# Altium footprint library sitiboard1.PcbLib: 27 footprints (part 2 of 2)
Each footprint in its own frame and in the unit in brackets; x right, y up, seen from the top. Pads: shape width x height; smd on the part's side, far side on the other; paste and mask are expansions set on the pad; w line width, h text height; cw(c..) or ccw(c..) is an arc to the next point about the centre after c.
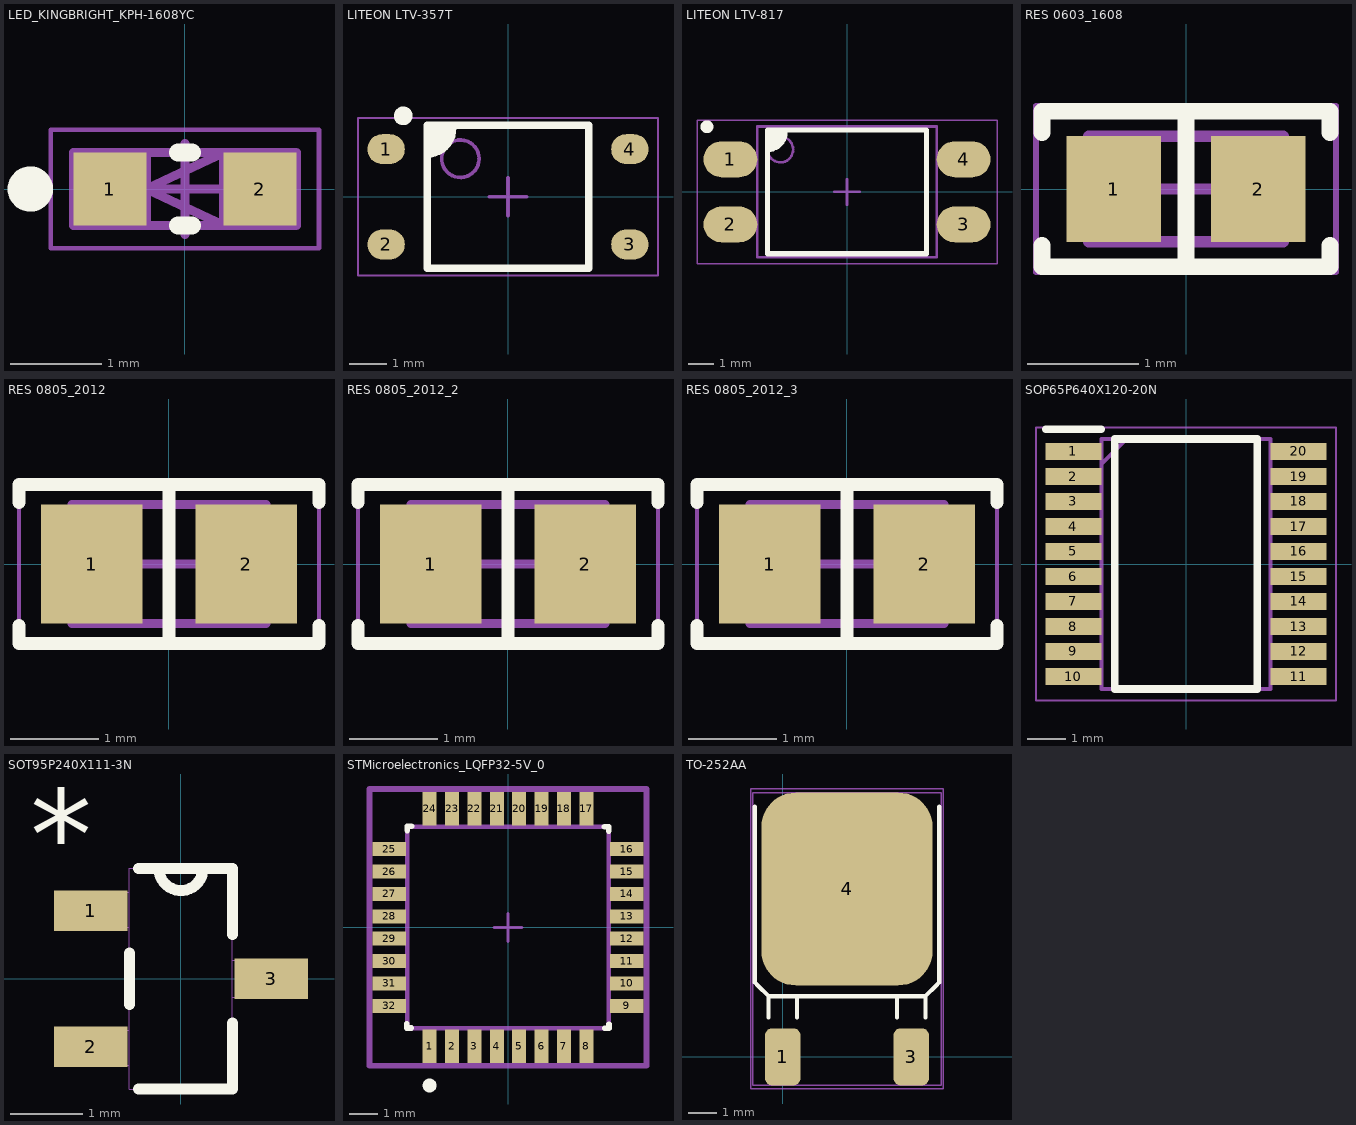
[diagram p1: the footprints below, top view; thin cyan lines are the x and y axes]

## LED_KINGBRIGHT_KPH-1608YC [mm]
pads (2):
  rect 0.8x0.8 smd: 1(-0.825,0) 2(0.825,0)
Top Overlay:
  circle w0.25: c-1.7,0 r0.125
  lines w0.2: -0.075,-0.4 0.075,-0.4 ; -0.075,0.4 0.075,0.4
Mechanical 8:
  lines w0.1: -0.5,0 0,0 ; -0.425,0 0.425,0 ; 0,-0.5 0,0 ; 0,0.5 0,0 ; 0.5,0 0,0 ; -0.425,-0.4 -1.225,-0.4 -1.225,0.4 -0.425,0.4 ; -0.425,-0.4 -0.425,0.4 ; -0.425,-0.4 -0.825,0 -0.425,0.4 ; 1.225,-0.4 0.425,-0.4 0.425,0.4 1.225,0.4 ; 1.225,-0.4 1.225,0.4 ; 1.225,-0.4 0.825,0 1.225,0.4
Mechanical 14:
  lines w0.1: -0.8,-0.4 -0.8,0.4 0.8,0.4 0.8,-0.4 -0.8,-0.4 ; -0.425,0 0.425,0.4 0.425,-0.4 -0.425,0
Mechanical 15:
  lines w0.05: -1.475,-0.65 -1.475,0.65 1.475,0.65 1.475,-0.65 -1.475,-0.65
3D body "LED_KINGBRIGHT_KPH-1608YC_Part2.stp": height 0.65, standoff 0.12, extent -0.6,-0.4 0.6,0.4
3D body "LED_KINGBRIGHT_KPH-1608YC_Part1.stp": height 0.2, standoff 0, extent -0.8,-0.4 0.8,0.4

## LITEON LTV-357T [mm]
pads (4):
  oval 1x0.8 smd: 1(-3.25,1.27) 2(-3.25,-1.27) 3(3.25,-1.27) 4(3.25,1.27)
Top Overlay:
  circle w0.25: c-2.794,2.159 r0.125
  region: -2.159,1.905 -1.472,1.905 -1.472,1.524 -1.853,1.143 -2.159,1.143
  lines w0.2: -2.159,1.143 ccw(c-2.159,1.83) -1.472,1.83 ; -2.159,-1.905 2.159,-1.905 2.159,1.905 -2.159,1.905 -2.159,-1.905
Mechanical 13:
  circle w0.1: c-1.27,1.016 r0.5
  lines w0.1: -2.159,-1.905 2.159,-1.905 2.159,1.905 -2.159,1.905 -2.159,-1.905
Mechanical 15:
  lines w0.05: -4,-2.1 4,-2.1 4,2.1 -4,2.1 -4,-2.1
  lines w0.1: -0.5,0 0.5,0 ; 0,-0.5 0,0.5
3D body "LTV-357T.STEP": height 2.1, standoff 0, extent -3.514,-1.925 3.514,1.925

## LITEON LTV-817 [mm]
pads (4):
  oval 2.1x1.4 smd: 1(-4.55,1.27) 2(-4.55,-1.27) 3(4.55,-1.27) 4(4.55,1.27)
Top Overlay:
  circle w0.25: c-5.461,2.54 r0.125
  region: -3.1,2.413 -2.413,2.413 -2.413,2.032 -2.794,1.651 -3.1,1.651
  lines w0.2: -3.1,1.651 ccw(c-3.1,2.338) -2.413,2.338 ; -3.1,-2.413 3.1,-2.413 3.1,2.413 -3.1,2.413 -3.1,-2.413
Mechanical 13:
  circle w0.1: c-2.6,1.65 r0.5
  lines w0.1: -3.5,-2.55 3.5,-2.55 3.5,2.55 -3.5,2.55 -3.5,-2.55
Mechanical 15:
  lines w0.05: -5.85,-2.8 5.85,-2.8 5.85,2.8 -5.85,2.8 -5.85,-2.8
  lines w0.1: -0.5,0 0.5,0 ; 0,-0.5 0,0.5
3D body "LTV-817S.STEP": height 3.85, standoff 0, extent -5.098,-2.3 5.098,2.3

## RES 0603_1608 [mm]
pads (2):
  rect 0.85x0.95 smd: 1(-0.65,0) 2(0.65,0)
Top Overlay:
  lines w0.15: -1.295,-0.7 -1.295,-0.508 ; -1.295,0.508 -1.295,0.7 ; -1.27,-0.7 1.27,-0.7 ; -1.27,0.7 1.27,0.7 ; 0,-0.7 0,0.7 ; 1.295,-0.7 1.295,-0.508 ; 1.295,0.508 1.295,0.7
Mechanical 13:
  lines w0.1: -0.875,-0.475 -0.875,0.475 0.875,0.475 0.875,-0.475 -0.875,-0.475
Mechanical 15:
  lines w0.05: -1.35,-0.75 -1.35,0.75 1.35,0.75 1.35,-0.75 -1.35,-0.75
  lines w0.1: -0.475,0 0.475,0 ; 0,-0.475 0,0.475
3D body "0603 resistor.STEP": height 0.45, standoff 0, extent -0.8,-0.4 0.8,0.4

## RES 0805_2012 [mm] "Chip Resistor, 2-Leads, Body 2.00x1.25mm, IPC Medium Density"
height 0.7
pads (2):
  rect 1.15x1.35 smd: 1(-0.875,0) 2(0.875,0)
Top Overlay:
  lines w0.15: -1.7,-0.7 -1.7,-0.9 1.7,-0.9 1.7,-0.7 ; -1.7,0.7 -1.7,0.9 1.7,0.9 1.7,0.7 ; 0,-0.9 0,0.9
Mechanical 13:
  lines w0.1: -1.1,-0.675 1.1,-0.675 1.1,0.675 -1.1,0.675 -1.1,-0.675
Mechanical 15:
  lines w0.05: -1.7,-0.95 1.7,-0.95 1.7,0.95 -1.7,0.95 -1.7,-0.95
  lines w0.1: -0.5,0 0.5,0 ; 0,-0.5 0,0.5
3D body "0805 resistor.STEP": height 0.6, standoff 0, extent -1,-0.625 1,0.625

## RES 0805_2012_2 [mm]
pads (2):
  rect 1.15x1.35 smd: 1(-0.875,0) 2(0.875,0)
Top Overlay:
  lines w0.15: -1.7,-0.7 -1.7,-0.9 1.7,-0.9 1.7,-0.7 ; -1.7,0.7 -1.7,0.9 1.7,0.9 1.7,0.7 ; 0,-0.9 0,0.9
Mechanical 13:
  lines w0.1: -1.1,-0.675 -1.1,0.675 1.1,0.675 1.1,-0.675 -1.1,-0.675
Mechanical 15:
  lines w0.05: -1.7,-0.95 -1.7,0.95 1.7,0.95 1.7,-0.95 -1.7,-0.95
  lines w0.1: -0.5,0 0.5,0 ; 0,-0.5 0,0.5
3D body "0805 resistor.STEP": height 0.6, standoff 0, extent -1,-0.625 1,0.625

## RES 0805_2012_3 [mm]
pads (2):
  rect 1.15x1.35 smd: 1(-0.875,0) 2(0.875,0)
Top Overlay:
  lines w0.15: -1.7,-0.7 -1.7,-0.9 1.7,-0.9 1.7,-0.7 ; -1.7,0.7 -1.7,0.9 1.7,0.9 1.7,0.7 ; 0,-0.9 0,0.9
Mechanical 13:
  lines w0.1: -1.1,-0.675 -1.1,0.675 1.1,0.675 1.1,-0.675 -1.1,-0.675
Mechanical 15:
  lines w0.05: -1.7,-0.95 -1.7,0.95 1.7,0.95 1.7,-0.95 -1.7,-0.95
  lines w0.1: -0.5,0 0.5,0 ; 0,-0.5 0,0.5
3D body "0805 resistor.STEP": height 0.6, standoff 0, extent -1,-0.625 1,0.625

## SOP65P640X120-20N [mm]
pads (20):
  rect 1.45x0.45 smd: 1(-2.925,2.925) 2(-2.925,2.275) 3(-2.925,1.625) 4(-2.925,0.975) 5(-2.925,0.325) 6(-2.925,-0.325) 7(-2.925,-0.975) 8(-2.925,-1.625) 9(-2.925,-2.275) 10(-2.925,-2.925) 11(2.925,-2.925) 12(2.925,-2.275) 13(2.925,-1.625) 14(2.925,-0.975) 15(2.925,-0.325) 16(2.925,0.325) 17(2.925,0.975) 18(2.925,1.625) 19(2.925,2.275) 20(2.925,2.925)
Top Overlay:
  lines w0.2: -3.65,3.5 -2.2,3.5 ; -1.85,-3.25 -1.85,3.25 1.85,3.25 1.85,-3.25 -1.85,-3.25
Mechanical 13:
  lines w0.1: -2.2,2.6 -1.55,3.25 ; -2.2,-3.25 -2.2,3.25 2.2,3.25 2.2,-3.25 -2.2,-3.25
Mechanical 15:
  lines w0.05: -3.9,-3.55 -3.9,3.55 3.9,3.55 3.9,-3.55 -3.9,-3.55
3D body "MC74VHC245DTG.stp": height 1.2, standoff 0, extent -3.2,-3.25 3.2,3.25

## SOT95P240X111-3N [mil]
pads (3):
  rect 40x22 smd: 1(-49,37) 2(-49,-37) 3(49,0)
Top Overlay:
  lines w6: -28,-14 -28,14 ; -23,-60 28,-60 28,-24 ; -23,60 -12,60 ; 28,24 28,60 12,60 ; -12,60 ccw(c0,60) 12,60 ; -12,60 12,60
  text "*" at -82,54 h49.21
Mechanical 13:
  lines w0: -28,-47 -52,-47 -52,-28 -28,-28 ; -28,-47 -28,-28 ; -28,-47 -28,-60 28,-60 28,-10 ; -28,-28 -28,28 ; -28,28 -52,28 -52,47 -28,47 ; -28,28 -28,47 ; -28,47 -28,60 -12,60 ; -12,60 ccw(c0,60) 12,60 ; -12,60 12,60 ; 12,60 28,60 28,10 ; 28,-10 52,-10 52,10 28,10 ; 28,-10 28,10
  text "*" at -82,54 h49.21
3D body "step_temp.STEP": height 43.7, standoff 0, extent -57.09,-47.24 57.09,47.24

## STMicroelectronics_LQFP32-5V_0 [mm]
pads (32):
  rect 0.5x1.2 smd paste+0 mask+0: 1(-2.8,-4.25) 2(-2,-4.25) 3(-1.2,-4.25) 4(-0.4,-4.25) 5(0.4,-4.25) 6(1.2,-4.25) 7(2,-4.25) 8(2.8,-4.25) 17(2.8,4.25) 18(2,4.25) 19(1.2,4.25) 20(0.4,4.25) 21(-0.4,4.25) 22(-1.2,4.25) 23(-2,4.25) 24(-2.8,4.25)
  rect 1.2x0.5 smd paste+0 mask+0: 9(4.25,-2.8) 10(4.25,-2) 11(4.25,-1.2) 12(4.25,-0.4) 13(4.25,0.4) 14(4.25,1.2) 15(4.25,2) 16(4.25,2.8) 25(-4.25,2.8) 26(-4.25,2) 27(-4.25,1.2) 28(-4.25,0.4) 29(-4.25,-0.4) 30(-4.25,-1.2) 31(-4.25,-2) 32(-4.25,-2.8)
Top Overlay:
  circle w0.25: c-2.8,-5.65 r0.125
  lines w0.2: -3.615,-3.445 -3.615,-3.595 -3.465,-3.595 ; -3.6,3.465 -3.6,3.615 -3.45,3.615 ; 3.45,3.6 3.6,3.6 3.6,3.45 ; 3.46,-3.605 3.61,-3.605 3.61,-3.455
Mechanical 10:
  lines w0.2: -4.95,-4.95 4.95,-4.95 4.95,4.95 -4.95,4.95 -4.95,-4.95
  text ".Designator" at 0,0 h1.25
Bottom Assembly:
  lines w0.15: -3.6,-3.6 3.6,-3.6 3.6,3.6 -3.6,3.6 -3.6,-3.6
Mechanical 15:
  lines w0.1: -0.5,0 0.5,0 ; 0,-0.5 0,0.5
  lines w0.2: -4.95,-4.95 4.95,-4.95 4.95,4.95 -4.95,4.95 -4.95,-4.95
3D body "IC_STMicroelectronics_STM8S005K6T6C_eec.STEP": height 0.25, standoff 0, extent -4.95,-4.95 4.95,4.95

## TO-252AA [mil]
pads (3):
  rrect40% 50x80 smd: 1(0,0) 3(180,0)
  rrect40% 240x270 smd: 4(90,235)
Top Overlay:
  lines w6: -39,350 -39,104 -35,100 -20,85 ; -20,55 -20,85 ; 20,55 20,85 ; 160,55 160,85 ; 200,55 200,85 ; 219,350 219,104 215,100 200,85 ; -20,85 200,85
Mechanical 13:
  lines w2: -42,-40 222,-40 222,370 -42,370 -42,-40
Mechanical 14:
  lines w2: -45,-45 -45,375 225,375 225,-45 -45,-45
3D body "TO-252.STEP": height 90.56, standoff -4.52, extent -38.73,-31.77 218.75,359.5